# Altium footprint library WS-TASV.PcbLib: 93 footprints (part 4 of 6)
Each footprint in its own frame and in the unit in brackets; x right, y up, seen from the top. Pads: shape width x height; smd on the part's side, far side on the other; paste and mask are expansions set on the pad; w line width, h text height; cw(c..) or ccw(c..) is an arc to the next point about the centre after c.
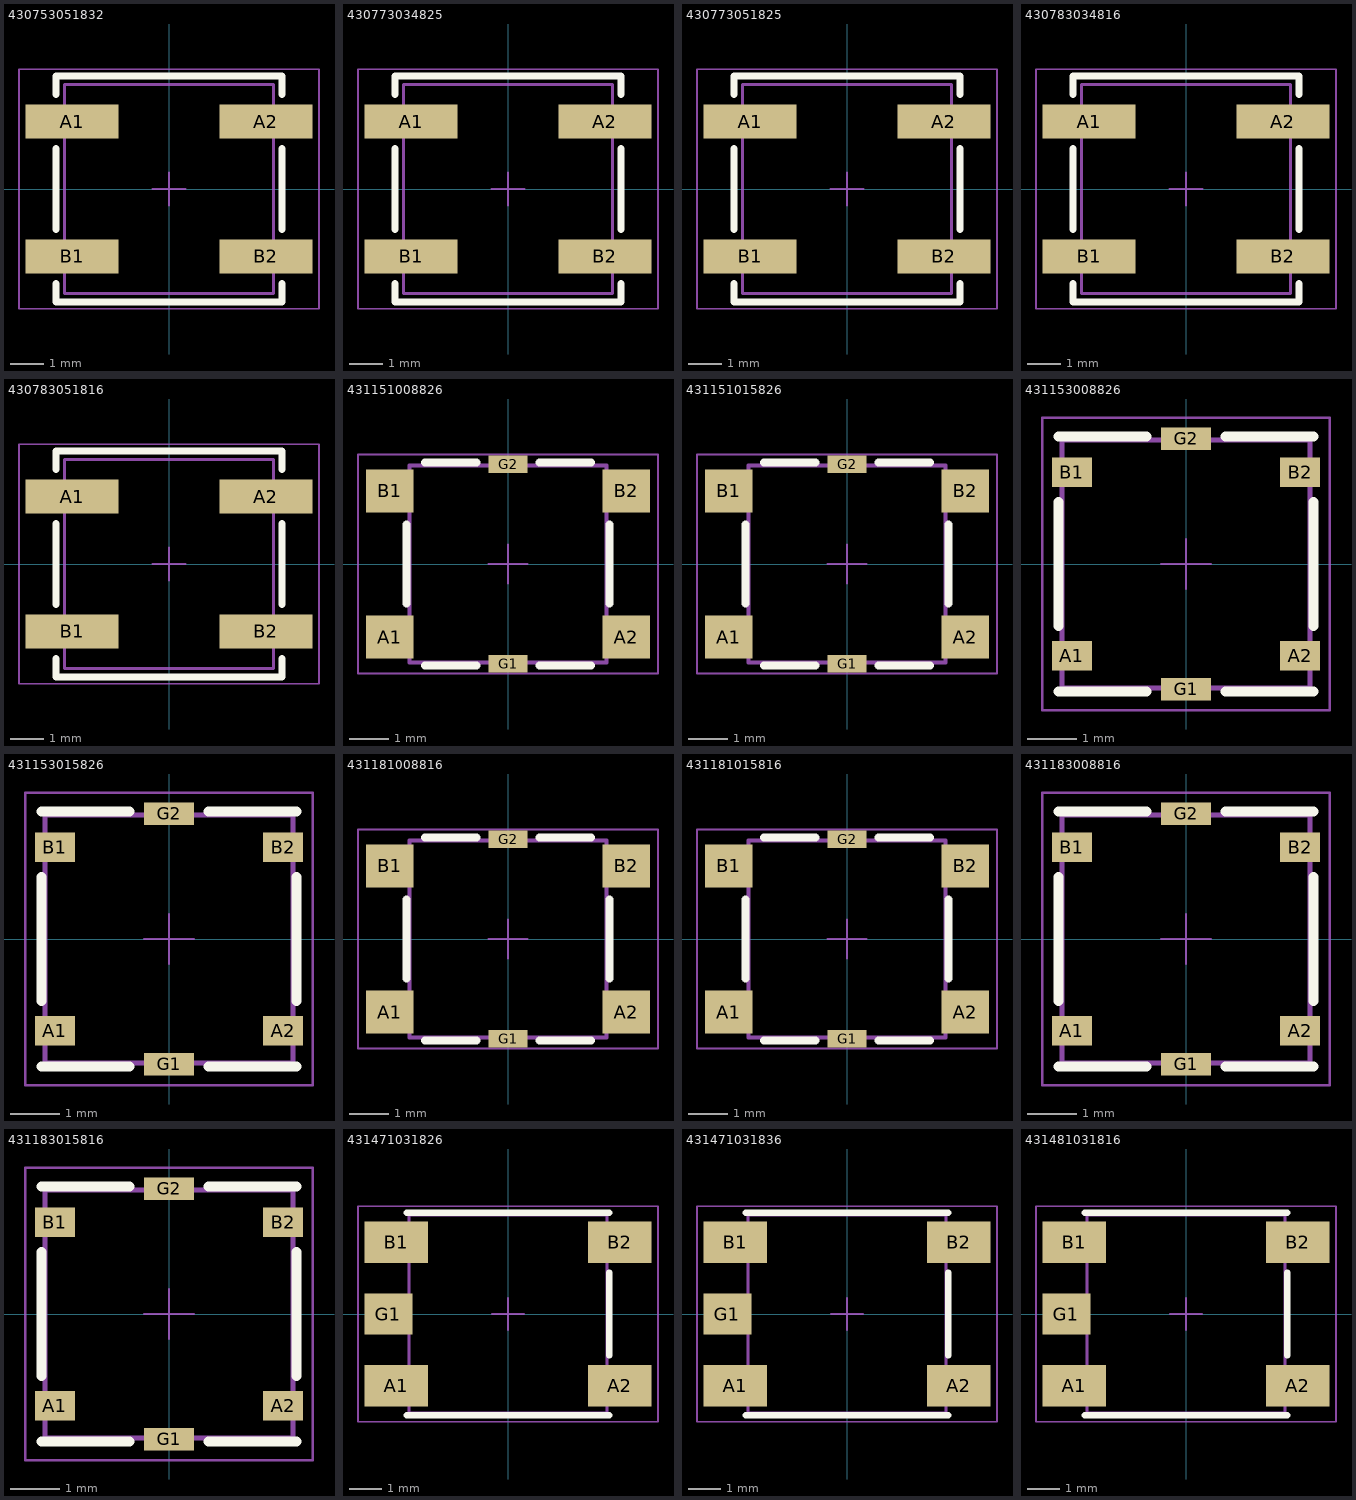
[diagram p3: the footprints below, top view; thin cyan lines are the x and y axes]

## 430753051832 [mm] "SMD Tact Switch, body 6.2 x 6.2 mm"
height 5.1
pads (4):
  rect 2.75x1 smd: A1(-2.875,2) A2(2.875,2) B1(-2.875,-2) B2(2.875,-2)
Top Overlay:
  lines w0.2: -3.35,-2.8 -3.35,-3.35 3.35,-3.35 3.35,-2.8 ; -3.35,-1.2 -3.35,1.2 ; -3.35,2.8 -3.35,3.35 3.35,3.35 3.35,2.8 ; 3.35,-1.2 3.35,1.2
Top Component Outline:
  lines w0.1: -3.1,-3.1 -3.1,3.1 3.1,3.1 3.1,-3.1 -3.1,-3.1
Top Courtyard:
  lines w0.05: -4.45,-3.55 4.45,-3.55 4.45,3.55 -4.45,3.55 -4.45,-3.55
Top Component Center:
  lines w0.05: -0.5,0 0.5,0 ; 0,-0.5 0,0.5
Top Designator (Mech19):
  text ".Designator" at -4.998,-0.333 h1
3D body "4307x30xx8xx_5_1.stp": height 5.1, standoff 0, extent -3.4,-3.1 3.4,3.1

## 430773034825 [mm] "SMD Tact Switch, body 6x6mm"
height 3.4
pads (4):
  rect 2.75x1 smd: A1(-2.875,2) A2(2.875,2) B1(-2.875,-2) B2(2.875,-2)
Top Overlay:
  lines w0.2: -3.35,-2.8 -3.35,-3.35 3.35,-3.35 3.35,-2.8 ; -3.35,-1.2 -3.35,1.2 ; -3.35,2.8 -3.35,3.35 3.35,3.35 3.35,2.8 ; 3.35,-1.2 3.35,1.2
Top Component Outline:
  lines w0.1: -3.1,-3.1 3.1,-3.1 3.1,3.1 -3.1,3.1 -3.1,-3.1
Top Courtyard:
  lines w0.05: -4.45,-3.55 -4.45,3.55 4.45,3.55 4.45,-3.55 -4.45,-3.55
Top Component Center:
  lines w0.05: -0.5,0 0.5,0 ; 0,-0.5 0,0.5
Top Designator (Mech19):
  text ".Designator" at -4.998,-0.333 h1
3D body "4307x30xx8xx_3_4.stp": height 3.4, standoff 0, extent -3.4,-3.1 3.4,3.1

## 430773051825 [mm] "SMD Tact Switch, body 6x6mm"
height 5.1
pads (4):
  rect 2.75x1 smd: A1(-2.875,2) A2(2.875,2) B1(-2.875,-2) B2(2.875,-2)
Top Overlay:
  lines w0.2: -3.35,-2.8 -3.35,-3.35 3.35,-3.35 3.35,-2.8 ; -3.35,-1.2 -3.35,1.2 ; -3.35,2.8 -3.35,3.35 3.35,3.35 3.35,2.8 ; 3.35,-1.2 3.35,1.2
Top Component Outline:
  lines w0.1: -3.1,-3.1 3.1,-3.1 3.1,3.1 -3.1,3.1 -3.1,-3.1
Top Courtyard:
  lines w0.05: -4.45,-3.55 4.45,-3.55 4.45,3.55 -4.45,3.55 -4.45,-3.55
Top Component Center:
  lines w0.05: -0.5,0 0.5,0 ; 0,-0.5 0,0.5
Top Designator (Mech19):
  text ".Designator" at -4.998,-0.333 h1
3D body "4307x30xx8xx_5_1.stp": height 5.1, standoff 0, extent -3.4,-3.1 3.4,3.1

## 430783034816 [mm] "SMD Tact Switch, body 6x6mm"
height 3.4
pads (4):
  rect 2.75x1 smd: A1(-2.875,2) A2(2.875,2) B1(-2.875,-2) B2(2.875,-2)
Top Overlay:
  lines w0.2: -3.35,-2.8 -3.35,-3.35 3.35,-3.35 3.35,-2.8 ; -3.35,-1.2 -3.35,1.2 ; -3.35,2.8 -3.35,3.35 3.35,3.35 3.35,2.8 ; 3.35,-1.2 3.35,1.2
Top Component Outline:
  lines w0.1: -3.1,-3.1 3.1,-3.1 3.1,3.1 -3.1,3.1 -3.1,-3.1
Top Courtyard:
  lines w0.05: -4.45,-3.55 -4.45,3.55 4.45,3.55 4.45,-3.55 -4.45,-3.55
Top Component Center:
  lines w0.05: -0.5,0 0.5,0 ; 0,-0.5 0,0.5
Top Designator (Mech19):
  text ".Designator" at -4.998,-0.333 h1
3D body "4307x30xx8xx_3_4.stp": height 3.4, standoff 0, extent -3.4,-3.1 3.4,3.1

## 430783051816 [mm] "SMD Tact Switch, body 6x6mm"
height 5.1
pads (4):
  rect 2.75x1 smd: A1(-2.875,2) A2(2.875,2) B1(-2.875,-2) B2(2.875,-2)
Top Overlay:
  lines w0.2: -3.35,-2.8 -3.35,-3.35 3.35,-3.35 3.35,-2.8 ; -3.35,-1.2 -3.35,1.2 ; -3.35,2.8 -3.35,3.35 3.35,3.35 3.35,2.8 ; 3.35,-1.2 3.35,1.2
Top Component Outline:
  lines w0.1: -3.1,-3.1 3.1,-3.1 3.1,3.1 -3.1,3.1 -3.1,-3.1
Top Courtyard:
  lines w0.05: -4.45,-3.55 4.45,-3.55 4.45,3.55 -4.45,3.55 -4.45,-3.55
Top Component Center:
  lines w0.05: -0.5,0 0.5,0 ; 0,-0.5 0,0.5
Top Designator (Mech19):
  text ".Designator" at -4.998,-0.333 h1
3D body "4307x30xx8xx_5_1.stp": height 5.1, standoff 0, extent -3.4,-3.1 3.4,3.1

## 431151008826 [mm] "Tact Switch, SMD, body 5x5mm"
height 0.8
pads (6):
  rect 1.2x1.1 smd: A1(-3,-1.85) A2(3,-1.85) B1(-3,1.85) B2(3,1.85)
  rect 1x0.45 smd: G1(0,-2.525) G2(0,2.525)
Top Overlay:
  lines w0.2: -2.575,-1 -2.575,1 ; -2.1,-2.575 -0.8,-2.575 ; -2.1,2.575 -0.8,2.575 ; 0.8,-2.575 2.1,-2.575 ; 0.8,2.575 2.1,2.575 ; 2.575,-1 2.575,1
Top Component Outline:
  lines w0.1: -2.5,-2.1 -3.1,-2.1 -3.1,-1.6 -2.5,-1.6 ; -2.5,1.6 -3.1,1.6 -3.1,2.1 -2.5,2.1 ; 2.5,-2.1 3.1,-2.1 3.1,-1.6 2.5,-1.6 ; 2.5,1.6 3.1,1.6 3.1,2.1 2.5,2.1 ; -2.5,-2.5 -2.5,2.5 2.5,2.5 2.5,-2.5 -2.5,-2.5
Top Courtyard:
  lines w0.05: -3.8,-2.775 -3.8,2.775 3.8,2.775 3.8,-2.775 -3.8,-2.775
Top Component Center:
  lines w0.05: -0.5,0 0.5,0 ; 0,-0.5 0,0.5
Top Designator (Mech19):
  text ".Designator" at -4.998,-0.333 h1
3D body "4311x10088x6.stp": height 0.8, standoff 0, extent -3.1,-2.5 3.1,2.5

## 431151015826 [mm] "Tact Switch, SMD, body 5x5mm"
height 1.5
pads (6):
  rect 1.2x1.1 smd: A1(-3,-1.85) A2(3,-1.85) B1(-3,1.85) B2(3,1.85)
  rect 1x0.45 smd: G1(0,-2.525) G2(0,2.525)
Top Overlay:
  lines w0.2: -2.575,-1 -2.575,1 ; -2.1,-2.575 -0.8,-2.575 ; -2.1,2.575 -0.8,2.575 ; 0.8,-2.575 2.1,-2.575 ; 0.8,2.575 2.1,2.575 ; 2.575,-1 2.575,1
Top Component Outline:
  lines w0.1: -2.5,-2.1 -3.1,-2.1 -3.1,-1.6 -2.5,-1.6 ; -2.5,1.6 -3.1,1.6 -3.1,2.1 -2.5,2.1 ; 2.5,-2.1 3.1,-2.1 3.1,-1.6 2.5,-1.6 ; 2.5,1.6 3.1,1.6 3.1,2.1 2.5,2.1 ; -2.5,-2.5 2.5,-2.5 2.5,2.5 -2.5,2.5 -2.5,-2.5
Top Courtyard:
  lines w0.05: -3.8,-2.775 -3.8,2.775 3.8,2.775 3.8,-2.775 -3.8,-2.775
Top Component Center:
  lines w0.05: -0.5,0 0.5,0 ; 0,-0.5 0,0.5
Top Designator (Mech19):
  text ".Designator" at -4.998,-0.333 h1
3D body "4311x10158x6.stp": height 1.5, standoff 0, extent -3.1,-2.5 3.1,2.5

## 431153008826 [mm] "Tact Switch, SMD, body 5x5mm"
height 0.8
pads (6):
  rect 0.8x0.6 smd: A1(-2.3,-1.85) A2(2.3,-1.85) B1(-2.3,1.85) B2(2.3,1.85)
  rect 1x0.45 smd: G1(0,-2.525) G2(0,2.525)
Top Overlay:
  lines w0.2: -2.575,-2.575 -0.8,-2.575 ; -2.575,-1.25 -2.575,1.25 ; -2.575,2.575 -0.8,2.575 ; 0.8,-2.575 2.575,-2.575 ; 0.8,2.575 2.575,2.575 ; 2.575,-1.25 2.575,1.25
Top Component Outline:
  lines w0.1: -2.5,-2.5 -2.5,2.5 2.5,2.5 2.5,-2.5 -2.5,-2.5
Top Courtyard:
  lines w0.05: -2.9,-2.95 -2.9,2.95 2.9,2.95 2.9,-2.95 -2.9,-2.95
Top Component Center:
  lines w0.05: -0.5,0 0.5,0 ; 0,-0.5 0,0.5
Top Designator (Mech19):
  text ".Designator" at -4.998,-0.333 h1
3D body "4311x30088x6.stp": height 0.8, standoff 0, extent -2.55,-2.5 2.55,2.5

## 431153015826 [mm] "Tact Switch, SMD, body 5x5mm"
height 1.5
pads (6):
  rect 0.8x0.6 smd: A1(-2.3,-1.85) A2(2.3,-1.85) B1(-2.3,1.85) B2(2.3,1.85)
  rect 1x0.45 smd: G1(0,-2.525) G2(0,2.525)
Top Overlay:
  lines w0.2: -2.575,-2.575 -0.8,-2.575 ; -2.575,-1.25 -2.575,1.25 ; -2.575,2.575 -0.8,2.575 ; 0.8,-2.575 2.575,-2.575 ; 0.8,2.575 2.575,2.575 ; 2.575,-1.25 2.575,1.25
Top Component Outline:
  lines w0.1: -2.5,-2.5 -2.5,2.5 2.5,2.5 2.5,-2.5 -2.5,-2.5
Top Courtyard:
  lines w0.05: -2.9,-2.95 -2.9,2.95 2.9,2.95 2.9,-2.95 -2.9,-2.95
Top Component Center:
  lines w0.05: -0.5,0 0.5,0 ; 0,-0.5 0,0.5
Top Designator (Mech19):
  text ".Designator" at -4.998,-0.333 h1
3D body "4311x30158x6.stp": height 1.5, standoff 0, extent -2.55,-2.5 2.55,2.5

## 431181008816 [mm] "Tact Switch, SMD, body 5x5mm"
height 0.8
pads (6):
  rect 1.2x1.1 smd: A1(-3,-1.85) A2(3,-1.85) B1(-3,1.85) B2(3,1.85)
  rect 1x0.45 smd: G1(0,-2.525) G2(0,2.525)
Top Overlay:
  lines w0.2: -2.575,-1 -2.575,1 ; -2.1,-2.575 -0.8,-2.575 ; -2.1,2.575 -0.8,2.575 ; 0.8,-2.575 2.1,-2.575 ; 0.8,2.575 2.1,2.575 ; 2.575,-1 2.575,1
Top Component Outline:
  lines w0.1: -2.5,-2.1 -3.1,-2.1 -3.1,-1.6 -2.5,-1.6 ; -2.5,1.6 -3.1,1.6 -3.1,2.1 -2.5,2.1 ; 2.5,-2.1 3.1,-2.1 3.1,-1.6 2.5,-1.6 ; 2.5,1.6 3.1,1.6 3.1,2.1 2.5,2.1 ; -2.5,-2.5 -2.5,2.5 2.5,2.5 2.5,-2.5 -2.5,-2.5
Top Courtyard:
  lines w0.05: -3.8,-2.775 -3.8,2.775 3.8,2.775 3.8,-2.775 -3.8,-2.775
Top Component Center:
  lines w0.05: -0.5,0 0.5,0 ; 0,-0.5 0,0.5
Top Designator (Mech19):
  text ".Designator" at -4.998,-0.333 h1
3D body "4311x10088x6.stp": height 0.8, standoff 0, extent -3.1,-2.5 3.1,2.5

## 431181015816 [mm] "Tact Switch, SMD, body 5x5mm"
height 1.5
pads (6):
  rect 1.2x1.1 smd: A1(-3,-1.85) A2(3,-1.85) B1(-3,1.85) B2(3,1.85)
  rect 1x0.45 smd: G1(0,-2.525) G2(0,2.525)
Top Overlay:
  lines w0.2: -2.575,-1 -2.575,1 ; -2.1,-2.575 -0.8,-2.575 ; -2.1,2.575 -0.8,2.575 ; 0.8,-2.575 2.1,-2.575 ; 0.8,2.575 2.1,2.575 ; 2.575,-1 2.575,1
Top Component Outline:
  lines w0.1: -2.5,-2.1 -3.1,-2.1 -3.1,-1.6 -2.5,-1.6 ; -2.5,1.6 -3.1,1.6 -3.1,2.1 -2.5,2.1 ; 2.5,-2.1 3.1,-2.1 3.1,-1.6 2.5,-1.6 ; 2.5,1.6 3.1,1.6 3.1,2.1 2.5,2.1 ; -2.5,-2.5 2.5,-2.5 2.5,2.5 -2.5,2.5 -2.5,-2.5
Top Courtyard:
  lines w0.05: -3.8,-2.775 -3.8,2.775 3.8,2.775 3.8,-2.775 -3.8,-2.775
Top Component Center:
  lines w0.05: -0.5,0 0.5,0 ; 0,-0.5 0,0.5
Top Designator (Mech19):
  text ".Designator" at -4.998,-0.333 h1
3D body "4311x10158x6.stp": height 1.5, standoff 0, extent -3.1,-2.5 3.1,2.5

## 431183008816 [mm] "Tact Switch, SMD, body 5x5mm"
height 0.8
pads (6):
  rect 0.8x0.6 smd: A1(-2.3,-1.85) A2(2.3,-1.85) B1(-2.3,1.85) B2(2.3,1.85)
  rect 1x0.45 smd: G1(0,-2.525) G2(0,2.525)
Top Overlay:
  lines w0.2: -2.575,-2.575 -0.8,-2.575 ; -2.575,-1.25 -2.575,1.25 ; -2.575,2.575 -0.8,2.575 ; 0.8,-2.575 2.575,-2.575 ; 0.8,2.575 2.575,2.575 ; 2.575,-1.25 2.575,1.25
Top Component Outline:
  lines w0.1: -2.5,-2.5 2.5,-2.5 2.5,2.5 -2.5,2.5 -2.5,-2.5
Top Courtyard:
  lines w0.05: -2.9,-2.95 2.9,-2.95 2.9,2.95 -2.9,2.95 -2.9,-2.95
Top Component Center:
  lines w0.05: -0.5,0 0.5,0 ; 0,-0.5 0,0.5
Top Designator (Mech19):
  text ".Designator" at -4.998,-0.333 h1
3D body "4311x30088x6.stp": height 0.8, standoff 0, extent -2.55,-2.5 2.55,2.5

## 431183015816 [mm] "Tact Switch, SMD, body 5x5mm"
height 1.5
pads (6):
  rect 0.8x0.6 smd: A1(-2.3,-1.85) A2(2.3,-1.85) B1(-2.3,1.85) B2(2.3,1.85)
  rect 1x0.45 smd: G1(0,-2.525) G2(0,2.525)
Top Overlay:
  lines w0.2: -2.575,-2.575 -0.8,-2.575 ; -2.575,-1.25 -2.575,1.25 ; -2.575,2.575 -0.8,2.575 ; 0.8,-2.575 2.575,-2.575 ; 0.8,2.575 2.575,2.575 ; 2.575,-1.25 2.575,1.25
Top Component Outline:
  lines w0.1: -2.5,-2.5 -2.5,2.5 2.5,2.5 2.5,-2.5 -2.5,-2.5
Top Courtyard:
  lines w0.05: -2.9,-2.95 -2.9,2.95 2.9,2.95 2.9,-2.95 -2.9,-2.95
Top Component Center:
  lines w0.05: -0.5,0 0.5,0 ; 0,-0.5 0,0.5
Top Designator (Mech19):
  text ".Designator" at -4.998,-0.333 h1
3D body "4311x30158x6.stp": height 1.5, standoff 0, extent -2.55,-2.5 2.55,2.5

## 431471031826 [mm] "SMD Tact Switch, body 6x6mm"
height 3.1
pads (5):
  rect 2x1.3 smd: A1(-3.5,-2.25) A2(3.5,-2.25) B1(-3.5,2.25) B2(3.5,2.25)
  rect 1.5x1.3 smd: G1(-3.75,0)
Top Overlay:
  lines w0.2: -3.175,-3.175 3.175,-3.175 ; -3.175,3.175 3.175,3.175 ; 3.175,-1.3 3.175,1.3
Top Component Outline:
  lines w0.1: -3.1,-2.6 -4,-2.6 -4,-1.9 -3.1,-1.9 ; -3.1,-0.35 -4,-0.35 -4,0.35 -3.1,0.35 ; -3.1,1.9 -4,1.9 -4,2.6 -3.1,2.6 ; 3.1,-2.6 4,-2.6 4,-1.9 3.1,-1.9 ; 3.1,1.9 4,1.9 4,2.6 3.1,2.6 ; -3.1,-3.1 -3.1,3.1 3.1,3.1 3.1,-3.1 -3.1,-3.1
Top Courtyard:
  lines w0.05: -4.7,-3.375 -4.7,3.375 4.7,3.375 4.7,-3.375 -4.7,-3.375
Top Component Center:
  lines w0.05: -0.5,0 0.5,0 ; 0,-0.5 0,0.5
Top Designator (Mech19):
  text ".Designator" at -4.998,-0.333 h1
3D body "4314x10318x6.stp": height 3.1, standoff 0, extent -4,-3.1 4,3.1

## 431471031836 [mm] "SMD Tact Switch, body 6x6mm"
height 3.1
pads (5):
  rect 2x1.3 smd: A1(-3.5,-2.25) A2(3.5,-2.25) B1(-3.5,2.25) B2(3.5,2.25)
  rect 1.5x1.3 smd: G1(-3.75,0)
Top Overlay:
  lines w0.2: -3.175,-3.175 3.175,-3.175 ; -3.175,3.175 3.175,3.175 ; 3.175,-1.3 3.175,1.3
Top Component Outline:
  lines w0.1: -3.1,-2.6 -4,-2.6 -4,-1.9 -3.1,-1.9 ; -3.1,-0.35 -4,-0.35 -4,0.35 -3.1,0.35 ; -3.1,1.9 -4,1.9 -4,2.6 -3.1,2.6 ; 3.1,-2.6 4,-2.6 4,-1.9 3.1,-1.9 ; 3.1,1.9 4,1.9 4,2.6 3.1,2.6 ; -3.1,-3.1 -3.1,3.1 3.1,3.1 3.1,-3.1 -3.1,-3.1
Top Courtyard:
  lines w0.05: -4.7,-3.375 -4.7,3.375 4.7,3.375 4.7,-3.375 -4.7,-3.375
Top Component Center:
  lines w0.05: -0.5,0 0.5,0 ; 0,-0.5 0,0.5
Top Designator (Mech19):
  text ".Designator" at -4.998,-0.333 h1
3D body "4314x10318x6.stp": height 3.1, standoff 0, extent -4,-3.1 4,3.1

## 431481031816 [mm] "SMD Tact Switch, body 6x6mm"
height 3.1
pads (5):
  rect 2x1.3 smd: A1(-3.5,-2.25) A2(3.5,-2.25) B1(-3.5,2.25) B2(3.5,2.25)
  rect 1.5x1.3 smd: G1(-3.75,0)
Top Overlay:
  lines w0.2: -3.175,-3.175 3.175,-3.175 ; -3.175,3.175 3.175,3.175 ; 3.175,-1.3 3.175,1.3
Top Component Outline:
  lines w0.1: -3.1,-2.6 -4,-2.6 -4,-1.9 -3.1,-1.9 ; -3.1,-0.35 -4,-0.35 -4,0.35 -3.1,0.35 ; -3.1,1.9 -4,1.9 -4,2.6 -3.1,2.6 ; 3.1,-2.6 4,-2.6 4,-1.9 3.1,-1.9 ; 3.1,1.9 4,1.9 4,2.6 3.1,2.6 ; -3.1,-3.1 3.1,-3.1 3.1,3.1 -3.1,3.1 -3.1,-3.1
Top Courtyard:
  lines w0.05: -4.7,-3.375 4.7,-3.375 4.7,3.375 -4.7,3.375 -4.7,-3.375
Top Component Center:
  lines w0.05: -0.5,0 0.5,0 ; 0,-0.5 0,0.5
Top Designator (Mech19):
  text ".Designator" at -4.998,-0.333 h1
3D body "4314x10318x6.stp": height 3.1, standoff 0, extent -4,-3.1 4,3.1